# Altium schematic symbol library CD4066.SchLib: 1 symbol
Pins are listed as number, name and electrical type; pins without a type are passive.

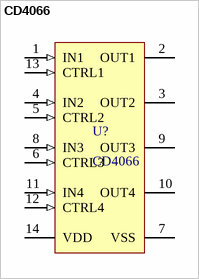
[diagram p0: symbol CD4066]

## CD4066
designator U?
Quad Analog Switch / Quad Multiplexer, 3 to 18 V, -55 to 125 degC, 14-Pin SOIC,
footprint D0014A_L
footprint D0014A_M
footprint D0014A_N
pins: 1 IN1 (in), 2 OUT1 (hiz), 3 OUT2 (hiz), 4 IN2 (in), 5 CTRL2 (in), 6 CTRL3 (in), 7 VSS (power), 8 IN3 (in), 9 OUT3 (hiz), 10 OUT4 (hiz), 11 IN4 (in), 12 CTRL4 (in), 13 CTRL1 (in), 14 VDD (power)